# EAGLE library part RKJXP122002 (library alps)
Stick Controller ALPS Electric Co RKJXP1224 Joystick w/ Center Button Reichelt Order No. RKJXP122002
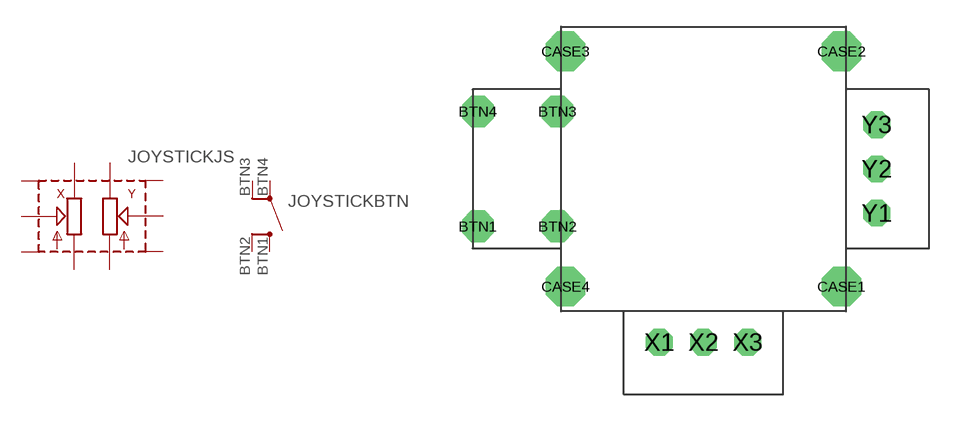
[diagram p0: symbol with the pads of RKJXP1224; footprint RKJXP1224]

Designator prefix JOYSTICK; gates JS=JOYSTICK BTN=JOYSTICK_BTN

## RKJXP122002  [RKJXP1224]
BTN1  BTN:D  pas
BTN2  BTN:D1  pas
BTN3  BTN:E1  pas
BTN4  BTN:E  pas
CASE1  JS:CASE1  pas
CASE2  JS:CASE2  pas
CASE3  JS:CASE3  pas
CASE4  JS:CASE4  pas
X1  JS:X1  pas
X2  JS:X2  pas
X3  JS:X3  pas
Y1  JS:Y1  pas
Y2  JS:Y2  pas
Y3  JS:Y3  pas

## Footprint RKJXP1224 (pad centres in mm)
drill 1.2 octagon: BTN1 -12.75,-3.25; BTN2 -8.25,-3.25; BTN3 -8.25,3.25; BTN4 -12.75,3.25
drill 1.5 octagon: CASE1 7.8,-6.65; CASE2 7.8,6.65; CASE3 -7.8,6.65; CASE4 -7.8,-6.65
drill 1 octagon: X1 -2.5,-9.8; X2 0,-9.8; X3 2.5,-9.8; Y1 9.8,-2.5; Y2 9.8,0; Y3 9.8,2.5